# EAGLE library part FEMALE_2X5 (library be_con_jump)
drawn: Mario Blunk / Blunk electronic
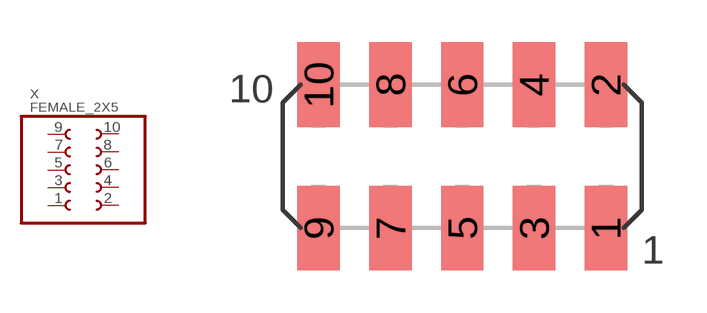
[diagram p11: symbol with the pads of S_FEMALE_2X10_VERTICAL_2.54MM; footprint S_FEMALE_2X10_VERTICAL_2.54MM]

Designator prefix X

## FEMALE_2X5 (BOM: YES; COMMISSIONED: 2014-01-14; PART_CODE_BEL: X_PAC_S_FEMALE_2X5_VERTICAL)  [S_FEMALE_2X10_VERTICAL_2.54MM]
1  1  pas
2  2  pas
3  3  pas
4  4  pas
5  5  pas
6  6  pas
7  7  pas
8  8  pas
9  9  pas
10  10  pas

## Footprint S_FEMALE_2X10_VERTICAL_2.54MM (pad centres in mm)
drawn: Mario Blunk / Blunk electronic date: 2014-01-14
smd 1.5 x 3: 1 5.08,-2.54; 2 5.08,2.54; 3 2.54,-2.54; 4 2.54,2.54; 5 0,-2.54; 6 0,2.54; 7 -2.54,-2.54; 8 -2.54,2.54; 9 -5.08,-2.54; 10 -5.08,2.54